# EAGLE library part SI5906DU (library vishay)
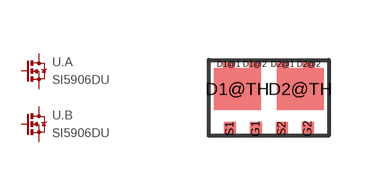
[diagram p1: symbol with the pads of POWERPAK_CHIPFET_DUAL; footprint POWERPAK_CHIPFET_DUAL]

Designator prefix U; gates .A=MOSFET_N .B=MOSFET_N

## SI5906DU  [POWERPAK_CHIPFET_DUAL]
D1@1  .A:D
D1@2  .A:D
D1@TH  .A:D
D2@1  .B:D
D2@2  .B:D
D2@TH  .B:D
G1  .A:G
G2  .B:G
S1  .A:S
S2  .B:S

## Footprint POWERPAK_CHIPFET_DUAL (pad centres in mm)
smd 0.3 x 0.2: D1@1 -1,0.85; D1@2 -0.35,0.85; D2@1 0.35,0.85; D2@2 1,0.85
smd 1.175 x 1.05: D1@TH -0.787,0.225; D2@TH 0.787,0.225
smd 0.3 x 0.35: G1 -0.325,-0.775; G2 0.975,-0.775; S1 -0.975,-0.775; S2 0.325,-0.775